# EAGLE library part USB (library MarkGalperin_me433_library)
USB Connectors USB-B-PTH is fully proven SKU : PRT-00139/CONN-08278 USB-miniB is fully proven SKU : PRT-00587 USB-A-PCB is untested. USB-A-H is throughly reviewed, but untested. Spark Fun Electronics SKU : PRT-00437 USB-B-SMT is throughly reviewed, but untested. Needs silkscreen touching up. USB-A-S has not been used/tested USB-MB-H has not been used/tested USB-MICROB has been used. CONN-09505
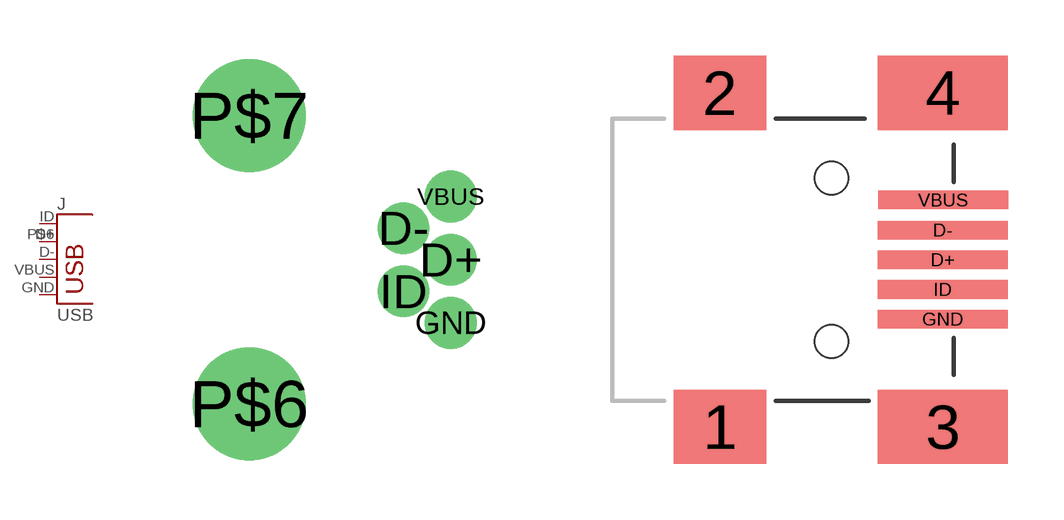
[diagram p0: symbol with the pads of USB-MB-H; footprints USB-MB-H, USB-MINIB-OLD]

Designator prefix J

## USB-MB-H  [USB-MB-H]
D+  D+
D-  D-
GND  GND
ID  ID
P$6  D+1
VBUS  VBUS

## USBOLD  [USB-MINIB-OLD]
D+  D+
D-  D-
GND  GND
VBUS  VBUS

## USB-JST-2MM-SMT (PROD_ID: CONN-08193)  [S4B-PH]
1  GND
2  D+
3  D-
4  VBUS

## USBSMD (PROD_ID: CONN-08193)  [USB-MINIB]
Pads as for USB-MINIB-OLD

## USB-SMD-NS  [USB-MINIB-NOSTOP]
Pads as for USB-MINIB-OLD

## USB-MICROB (PROD_ID: CONN-09505)  [USB-MICROB]
D+  D+
D-  D-
GND  GND
MT1  GND
MT2  GND
VBUS  VBUS

## Footprint USB-MB-H (pad centres in mm)
USB Series Mini-B Hole Mounted
drill 0.8: D+ 5.1,0; D- 3.9,0.8; GND 5.1,-1.6; ID 3.9,-0.8; VBUS 5.1,1.6
drill 1.9: P$6 0,-3.65; P$7 0,3.65

## Footprint USB-MINIB-OLD (pad centres in mm)
USB Series Mini-B Surface Mounted
smd 2.5 x 2: 1 -3,-4.5; 2 -3,4.5
smd 3.5 x 2: 3 3,-4.5; 4 3,4.5
smd 3.5 x 0.5: D+ 3,0; D- 3,0.8; GND 3,-1.6; ID 3,-0.8; VBUS 3.01,1.61
hole 0.9 at 0,2.2
hole 0.9 at 0,-2.2

## Footprint S4B-PH (pad centres in mm)
smd 1 x 4.6: 1 -3,-4.7; 2 -1,-4.7; 3 1,-4.7; 4 3,-4.7
smd 1.6 x 3.4: P$1 -5.4,0.5; P$2 5.4,0.5

## Footprint USB-MINIB (pad centres in mm)
USB Series Mini-B Surface Mounted
smd 2.5 x 0.5: D+ 2.5,0; D- 2.5,0.8; GND 2.5,-1.6; ID 2.5,-0.8; VBUS 2.5,1.6
smd 2.5 x 2: MTN1 -3,4.5; MTN2 2.5,4.5; MTN3 -3,-4.5; MTN4 2.5,-4.5
hole 0.9 at 0,2.2
hole 0.9 at 0,-2.2

## Footprint USB-MINIB-NOSTOP (pad centres in mm)
smd 2.5 x 0.5: D+ 2.5,0; D- 2.5,0.8; GND 2.5,-1.6; ID 2.5,-0.8; VBUS 2.5,1.6
smd 2.5 x 2: G1 -3,-4.5; G2 -3,4.5; G3 2.5,4.5; G4 2.5,-4.5
drill 0.9 pad 0.8: H1 0,2.2
drill 0.9 pad 0.787: H2 0,-2.2

## Footprint USB-MICROB (pad centres in mm)
Micro USB Package
smd 0.35 x 1.4: D+ 0,2.65; D- -0.65,2.65; GND 1.3,2.65; ID 0.65,2.65; VBUS -1.3,2.65
smd 1.8 x 1.9: MT1 -4,0; MT2 4,0
smd 1.9 x 1.9: P$1 -1.27,0; P$2 1.27,0